# EAGLE library part PINHEAD-1X7 (library BaseApp)
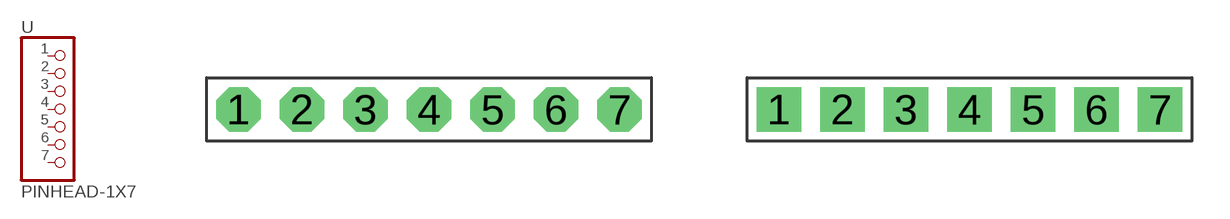
[diagram p62: symbol with the pads of PINHEAD-1X7; footprints PINHEAD-1X7, PINHEAD-1X7-SQUARE]

Designator prefix -

## PINHEAD-1X7  [PINHEAD-1X7]
1  1  pas
2  2  pas
3  3  pas
4  4  pas
5  5  pas
6  6  pas
7  7  pas

## PINHEAD-1X7.  [PINHEAD-1X7-SQUARE]
Pads as for PINHEAD-1X7

## Footprint PINHEAD-1X7 (pad centres in mm)
drill 1.016 pad 1.778 octagon: 1 -7.62,0; 2 -5.08,0; 3 -2.54,0; 4 0,0; 5 2.54,0; 6 5.08,0; 7 7.62,0

## Footprint PINHEAD-1X7-SQUARE (pad centres in mm)
drill 1.016 pad 1.778 square: 1 -7.62,0; 2 -5.08,0; 3 -2.54,0; 4 0,0; 5 2.54,0; 6 5.08,0; 7 7.62,0